# EAGLE library part TLIN1021ADRQ1 (library SamacSys_Parts)
LIN Transceivers Automotive Fault-Protected LIN Transceiver with Inhibit and Wake 8-SOIC -40 to 125 Source: Datasheet <https://www.ti.com/lit/ds/symlink/tlin1021a-q1.pdf?ts=1698763034141&ref_url=https%3A%2F%2Fwww.ti.com%2Fsitesearch%2Fen-us%2Fdocs%2Funiversalsearch.tsp%3FlangPref%3Den-US%26searchTerm%3DTLIN1021ADDFRQ1%26nr%3D2>
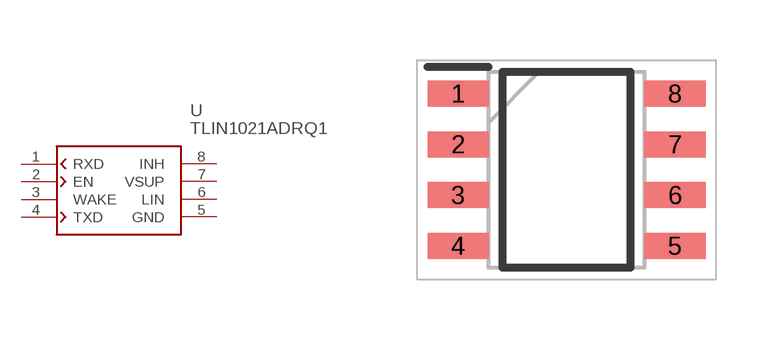
[diagram p2: symbol with the pads of SOIC127P600X175-8N; footprint SOIC127P600X175-8N]

Designator prefix U

## TLIN1021ADRQ1 (DESCRIPTION: LIN Transceivers Automotive Fault-Protected LIN Transceiver with Inhibit and Wake 8-SOIC -40 to 125; HEIGHT: 1.75mm; MANUFACTURER_NAME: Texas Instruments; MANUFACTURER_PART_NUMBER: TLIN1021ADRQ1; MOUSER_PART_NUMBER: 595-TLIN1021ADRQ1; MOUSER_PRICE-STOCK: https://www.mouser.co.uk/ProductDetail/Texas-Instruments/TLIN1021ADRQ1?qs=Li%252BoUPsLEnt1sZPSCluOEg%3D%3D)  [SOIC127P600X175-8N]
1  RXD
2  EN
3  WAKE
4  TXD
5  GND
6  LIN
7  VSUP
8  INH

## Footprint SOIC127P600X175-8N (pad centres in mm)
D0008A-H=1.75
smd 1.528 x 0.65: 1 -2.711,1.905; 2 -2.711,0.635; 3 -2.711,-0.635; 4 -2.711,-1.905; 5 2.711,-1.905; 6 2.711,-0.635; 7 2.711,0.635; 8 2.711,1.905